# Altium footprint library WE-PD.PcbLib: 17 footprints (part 2 of 2)
Each footprint in its own frame and in the unit in brackets; x right, y up, seen from the top. Pads: shape width x height; smd on the part's side, far side on the other; paste and mask are expansions set on the pad; w line width, h text height; cw(c..) or ccw(c..) is an arc to the next point about the centre after c.
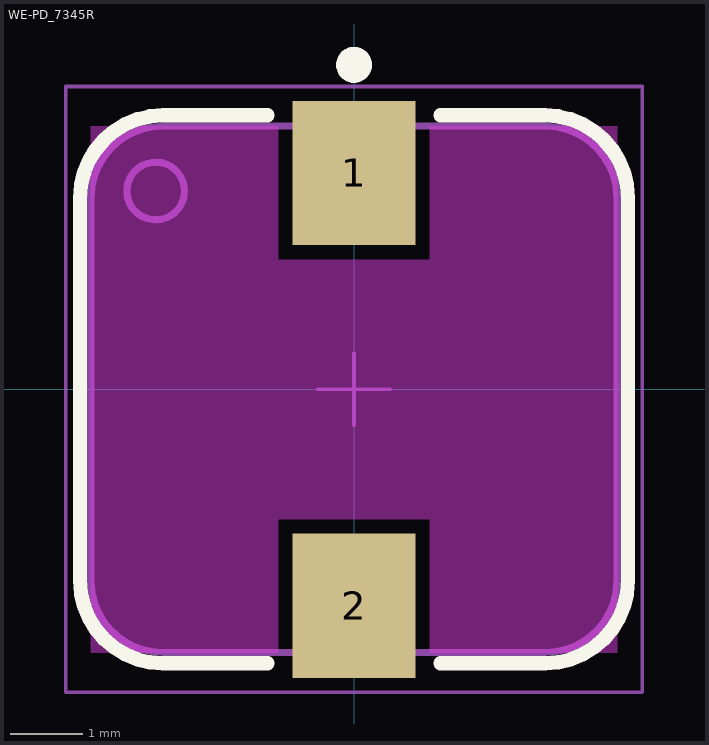
[diagram p1: the footprint, top view; thin cyan lines are the x and y axes]

## WE-PD_7345R [mm] "SMT Shielded Power Inductor, 2-leads, body 7.3x7.3mm"
height 4.5
pads (2):
  rect 1.7x2 smd: 1(0,3) 2(0,-3)
Top Layer keep-out:
  region: 3.65,-3.65 1.05,-3.65 1.05,-1.8 -1.05,-1.8 -1.05,-3.65 -3.65,-3.65 -3.65,3.65 -1.05,3.65 -1.05,1.8 1.05,1.8 1.05,3.65 3.65,3.65
Top Overlay:
  circle w0.25: c0,4.5 r0.125
  lines w0.2: -1.2,-3.8 -2.65,-3.8 cw(c-2.65,-2.65) -3.8,-2.65 -3.8,2.65 cw(c-2.65,2.65) -2.65,3.8 -1.2,3.8 ; 1.2,-3.8 2.65,-3.8 ccw(c2.65,-2.65) 3.8,-2.65 3.8,2.65 ccw(c2.65,2.65) 2.65,3.8 1.2,3.8
Top Designator:
  text ".Designator" at -7.498,-0.5 h1.5
Top Component Outline:
  circle w0.1: c-2.75,2.75 r0.4
  lines w0.1: -3.65,-2.65 ccw(c-2.65,-2.65) -2.65,-3.65 2.65,-3.65 ccw(c2.65,-2.65) 3.65,-2.65 3.65,2.65 ccw(c2.65,2.65) 2.65,3.65 -2.65,3.65 ccw(c-2.65,2.65) -3.65,2.65 -3.65,-2.65
Top 3D Body:
  circle w0.1: c-2.75,2.75 r0.4
  lines w0.1: -3.65,-2.65 ccw(c-2.65,-2.65) -2.65,-3.65 2.65,-3.65 ccw(c2.65,-2.65) 3.65,-2.65 3.65,2.65 ccw(c2.65,2.65) 2.65,3.65 -2.65,3.65 ccw(c-2.65,2.65) -3.65,2.65 -3.65,-2.65
Top Courtyard:
  lines w0.05: -0.5,0 0.5,0 ; 0,-0.5 0,0.5 ; -4,-4.2 4,-4.2 4,4.2 -4,4.2 -4,-4.2
3D body "WE-PD_7345_p-base_7447779xx.stp": height 4.1, standoff 0, extent -3.65,-3.65 3.65,3.65